# EAGLE library part 50281-006 (library con-aces-50281-series)
ACES CONNECTORS 50281 SERIES ACES Connecors 50281
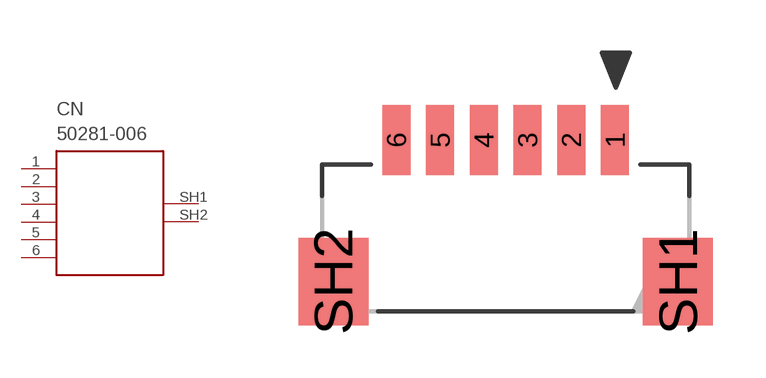
[diagram p2: symbol with the pads of 50281-006; footprint 50281-006]

Designator prefix CN

## 50281-006  [50281-006]
1  1
2  2
3  3
4  4
5  5
6  6
SH1  SH1
SH2  SH2

## Footprint 50281-006 (pad centres in mm)
smd 0.8 x 2: 1 3.125,1.9; 2 1.875,1.9; 3 0.625,1.9; 4 -0.625,1.9; 5 -1.875,1.9; 6 -3.125,1.9
smd 2 x 2.5: SH1 4.925,-2.15; SH2 -4.925,-2.15